# Altium footprint library Motor_Driver_Model_D203.PcbLib: 30 footprints (part 2 of 2)
Each footprint in its own frame and in the unit in brackets; x right, y up, seen from the top. Pads: shape width x height; smd on the part's side, far side on the other; paste and mask are expansions set on the pad; w line width, h text height; cw(c..) or ccw(c..) is an arc to the next point about the centre after c.
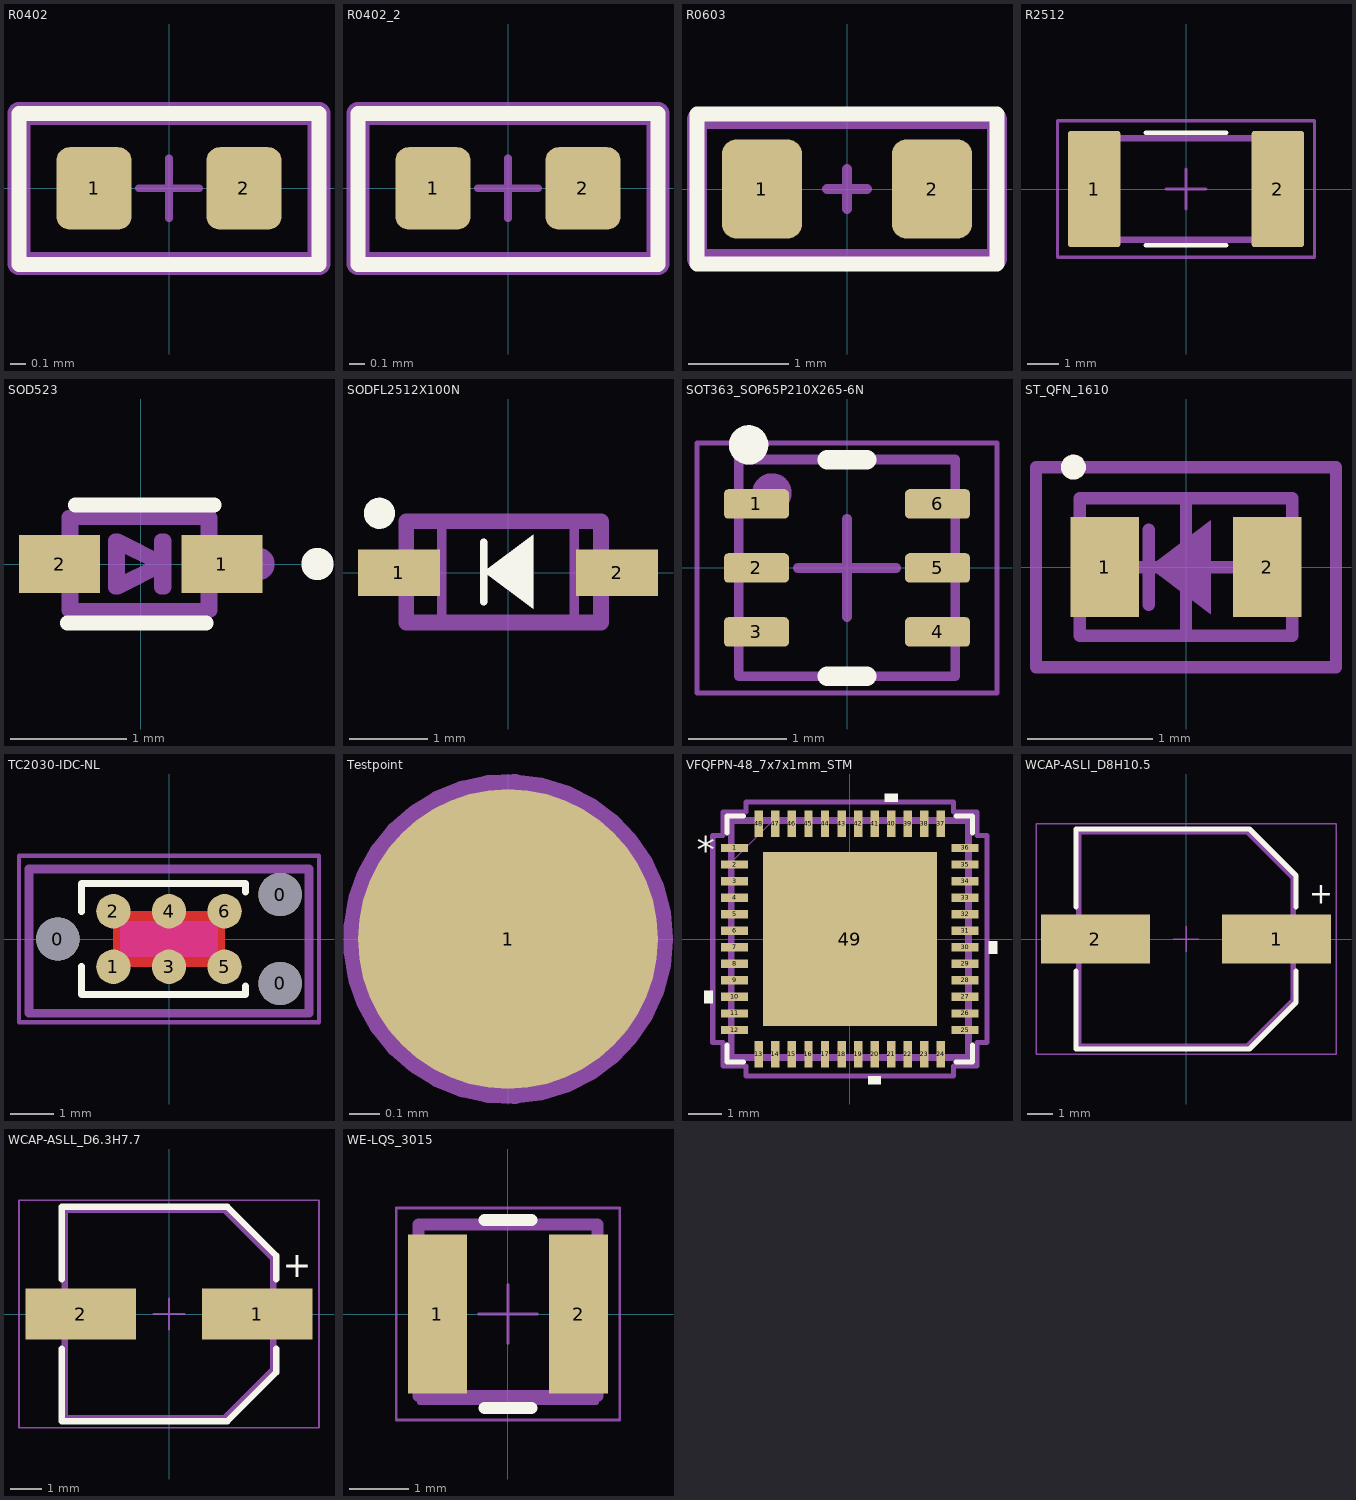
[diagram p1: the footprints below, top view; thin cyan lines are the x and y axes]

## R0402 [mm]
pads (2):
  rrect35% 0.5x0.55 smd: 1(-0.5,0) 2(0.5,0)
Top Overlay:
  lines w0.1: -1,-0.508 1,-0.508 1,0.5 -1,0.5 -1,-0.508
Top ASSY:
  lines w0.152: -1,-0.5 -1,0.5 1,0.5 1,-0.5 -1,-0.5
  text ".Designator" at -3.732,-0.067 h0.8
Mechanical 15:
  lines w0.05: -1,-0.5 1,-0.5 1,0.5 -1,0.5 -1,-0.5
  lines w0.051: -0.2,0 0.2,0 ; 0,-0.2 0,0.2
3D body "RC0402N.step": height 0.71, standoff 0, extent -0.533,-0.254 0.533,0.254

## R0402_2 [mm]
pads (2):
  rrect35% 0.5x0.55 smd: 1(-0.5,0) 2(0.5,0)
Top Overlay:
  lines w0.1: -1,-0.508 -1,0.5 1,0.5 1,-0.508 -1,-0.508
Top ASSY:
  lines w0.152: -1,-0.5 1,-0.5 1,0.5 -1,0.5 -1,-0.5
  text ".Designator" at -3.799,-0.067 h0.8
Mechanical 15:
  lines w0.05: -1,-0.5 -1,0.5 1,0.5 1,-0.5 -1,-0.5
  lines w0.051: -0.2,0 0.2,0 ; 0,-0.2 0,0.2
3D body "RC0402N.step": height 0.71, standoff 0, extent -0.533,-0.254 0.533,0.254

## R0603 [mm]
pads (2):
  rrect35% 0.8x0.991 smd: 1(-0.85,0) 2(0.85,0)
Top Overlay:
  lines w0.152: -1.5,-0.75 -1.5,0.75 1.5,0.75 1.5,-0.75 -1.5,-0.75
Top ASSY:
  lines w0.2: -1.5,-0.7 1.5,-0.7 1.5,0.7 -1.5,0.7 -1.5,-0.7
  text ".Designator" at -4.232,-0.067 h0.8
Mechanical 15:
  lines w0.1: -0.2,0 0.2,0 ; 0,-0.2 0,0.2 ; -1.5,-0.75 -1.5,0.75 1.5,0.75 1.5,-0.75 -1.5,-0.75
3D body "RC0603N.step": height 0.71, standoff 0, extent -0.8,-0.406 0.8,0.406

## R2512 [mm]
pads (2):
  rrect10% 1.65x3.68 smd: 1(-2.9,0) 2(2.9,0)
Top Overlay:
  lines w0.152: -1.27,-1.778 1.27,-1.778 ; -1.27,1.778 1.27,1.778
Top ASSY:
  lines w0.2: -3.15,-1.6 -3.15,1.6 3.15,1.6 3.15,-1.6 -3.15,-1.6
  text "'.Designator'" at 4.548,0.06 h0.8
Mechanical 15:
  lines w0.1: -0.635,0 0.635,0 ; 0,-0.635 0,0.635 ; -4.064,-2.159 4.064,-2.159 4.064,2.159 -4.064,2.159 -4.064,-2.159
3D body "RC2512N.step": height 0.71, standoff 0, extent -3.15,-1.6 3.15,1.6

## SOD523 [mm]
pads (2):
  rect 0.7x0.5 smd: 1(0.7,0) 2(-0.7,0)
Top Overlay:
  circle w0.25: c1.524,0 r0.014
  lines w0.127: -0.635,-0.508 0.565,-0.508 ; -0.565,0.508 0.635,0.508
3D:
  region: -0.6,-0.15 -0.801,-0.15 -0.801,0.15 -0.6,0.15
  region: 0.8,-0.15 0.6,-0.15 0.6,0.15 0.8,0.15
  lines w0.127: 0.2,-0.2 0.2,0 ; 0.2,0.2 0.2,0 ; 0.2,0 -0.2,-0.2 -0.2,0.2 0.2,0 ; -0.6,-0.4 -0.6,0.4 0.6,0.4 0.6,-0.4 -0.6,-0.4
Top ASSY:
  circle w0.25: c1.016,0 r0.014
  region: 0.779,-0.149 0.58,-0.149 0.58,0.151 0.779,0.151
  region: -0.621,-0.149 -0.822,-0.149 -0.822,0.151 -0.621,0.151
  lines w0.127: 0.179,-0.199 0.179,0.001 ; 0.179,0.201 0.179,0.001 ; 0.179,0.001 -0.221,-0.199 -0.221,0.201 0.179,0.001 ; -0.621,-0.399 -0.621,0.401 0.579,0.401 0.579,-0.399 -0.621,-0.399
  text ".Designator" at -2.263,-1.207 h0.5
3D body "BAS716.STEP": height 0.65, standoff 0, extent -0.8,-0.4 0.8,0.4

## SODFL2512X100N [mm]
pads (2):
  rect 1.05x0.6 smd: 1(-1.4,0) 2(1.4,0)
Top Overlay:
  circle w0.2: c-1.651,0.762 r0.1
  region: -0.311,0.01 0.324,0.487 0.324,-0.466
  lines w0.1: -0.311,-0.371 -0.311,0.391
3D:
  lines w0.127: -0.85,-0.625 -0.85,0.625 ; 0.85,-0.625 0.85,0.625
Top ASSY:
  region: -0.311,0.01 0.324,0.487 0.324,-0.466
  lines w0.1: -0.311,-0.371 -0.311,0.391
  lines w0.2: -1.307,-0.64 1.193,-0.64 1.193,0.66 -1.307,0.66 -1.307,-0.64
  text ".Designator" at -2.39,-1.715 h0.5
3D body "step_temp.STEP": height 0.7, standoff -0.2, extent -1.25,-0.625 1.25,0.625

## SOT363_SOP65P210X265-6N [mm]
pads (6):
  rrect30% 0.66x0.3 smd mask+0.05: 1(-0.92,0.65) 2(-0.92,0) 3(-0.92,-0.65) 4(0.92,-0.65) 5(0.92,0) 6(0.92,0.65)
Top Overlay:
  circle w0.2: c-1,1.25 r0.1
  lines w0.2: -0.2,-1.1 0.2,-1.1 ; -0.2,1.1 0.2,1.1
Top ASSY:
  circle w0.2: c-0.762,0.762 r0.1
  lines w0.1: -1.1,-1.1 -1.1,1.1 1.1,1.1 1.1,-1.1 -1.1,-1.1
  text "'.Designator'" at -0.187,4.627 h0.8
Mechanical 15:
  lines w0.05: -1.524,-1.27 -1.524,1.27 1.524,1.27 1.524,-1.27 -1.524,-1.27
  lines w0.1: -0.5,0 0.5,0 ; 0,-0.5 0,0.5
3D body "SOT-363.STEP": height 1.1, standoff 0, extent -1.1,-1.1 1.1,1.1

## ST_QFN_1610 [mm]
pads (2):
  rect 0.55x0.8 smd: 1(-0.65,0) 2(0.65,0)
Top Overlay:
  circle w0.1: c-0.9,0.8 r0.05
Top ASSY:
  region: -0.3,0 0.2,0.375 0.2,-0.375
  lines w0.1: -0.3,-0.3 -0.3,0.3 ; -0.85,-0.55 -0.85,0.55 0.85,0.55 0.85,-0.55 -0.85,-0.55
  text "'.Designator'" at -4.3,-1.584 h0.8
Mechanical 15:
  lines w0.1: -0.5,0 0.5,0 ; 0,-0.5 0,0.5 ; -1.2,-0.8 -1.2,0.8 1.2,0.8 1.2,-0.8 -1.2,-0.8
3D body "ST_1610.step": height 0.6, standoff 0, extent -0.85,-0.55 0.85,0.55

## TC2030-IDC-NL [mil]
pads (9):
  round 39 hole 39 unplated paste-20: 0(-100,0) 0(100,-40) 0(100,40)
  round 31 smd paste-16: 1(-50,-25) 2(-50,25) 3(0,-25) 4(0,25) 5(50,-25) 6(50,25)
Top Layer:
  pour cut-out: -50,25 50,25 50,-25 -50,-25
Top Layer keep-out:
  rectangle: -44,-16 44,16
Top Overlay:
  lines w5.98: -78.74,-24.61 -78.74,-50 68.9,-50 68.9,-42.32 ; -78.74,24.61 -78.74,50 68.9,50 68.9,42.32
Top ASSY:
  lines w7.87: -125.98,-66.93 -125.98,62.99 125.98,62.99 125.98,-66.93 -125.98,-66.93
  text "6" at 43.31,15.75 h31.5
  text "5" at 43.31,-35.43 h31.5
  text "4" at -7.87,15.75 h31.5
  text "3" at -7.87,-35.43 h31.5
  text "2" at -59.06,15.75 h31.5
  text "1" at -55.12,-35.43 h31.5
  text "'.Designator'" at -196.8,-5.25 h31.5
Mechanical 15:
  lines w3.94: -19.68,0 19.68,0 ; 0,-19.68 0,19.68 ; -135,-75 -135,75 135,75 135,-75 -135,-75

## Testpoint [mm]
pads (1):
  round 1 smd paste-0.508 mask-0.025: 1(0,0)
Top ASSY:
  circle w0.1: c0,0 r0.5
  text "'.Designator'" at -1.305,4.107 h0.8
3D body: height -0.19, standoff -0.2, extent -0.496,-0.499 0.5,0.499

## VFQFPN-48_7x7x1mm_STM [mil]
pads (49):
  rect 32x10 smd paste+0 mask+0: 1(-137,108.27) 2(-137,88.58) 3(-137,68.9) 4(-137,49.21) 5(-137,29.53) 6(-137,9.84) 7(-137,-9.84) 8(-137,-29.53) 9(-137,-49.21) 10(-137,-68.9) 11(-137,-88.58) 12(-137,-108.27) 25(137,-108.27) 26(137,-88.58) 27(137,-68.9) 28(137,-49.21) 29(137,-29.53) 30(137,-9.84) 31(137,9.84) 32(137,29.53) 33(137,49.21) 34(137,68.9) 35(137,88.58) 36(137,108.27)
  rect 10x32 smd paste+0 mask+0: 13(-108.27,-137) 14(-88.58,-137) 15(-68.9,-137) 16(-49.21,-137) 17(-29.53,-137) 18(-9.84,-137) 19(9.84,-137) 20(29.53,-137) 21(49.21,-137) 22(68.9,-137) 23(88.58,-137) 24(108.27,-137) 37(108.27,137) 38(88.58,137) 39(68.9,137) 40(49.21,137) 41(29.53,137) 42(9.84,137) 43(-9.84,137) 44(-29.53,137) 45(-49.21,137) 46(-68.9,137) 47(-88.58,137) 48(-108.27,137)
  rect 207x207 smd paste-103 mask+0: 49(0,0)
Top Overlay:
  region: 56.71,163 41.71,163 41.71,173 56.71,173
  region: 165,-2.5 175,-2.5 175,-17.5 165,-17.5
  region: 37.03,-163 22.03,-163 22.03,-173 37.03,-173
  region: -163,-61.4 -173,-61.4 -173,-76.4 -163,-76.4
  lines w6: -146,-126.37 -146,-146 -126.37,-146 ; -146,126.37 -146,146 -126.37,146 ; 126.37,-146 146,-146 146,-126.37 ; 126.37,146 146,146 146,126.37
  text "*" at -181.76,90.56 h31.5
Top Paste:
  region: 99.56,-55.69 55.69,-55.69 55.69,-99.56 99.56,-99.56
  region: 99.56,-3.94 55.69,-3.94 55.69,-47.81 99.56,-47.81
  region: 99.56,47.81 55.69,47.81 55.69,3.94 99.56,3.94
  region: 99.56,99.56 55.69,99.56 55.69,55.69 99.56,55.69
  region: 47.81,-55.69 3.94,-55.69 3.94,-99.56 47.81,-99.56
  region: 47.81,-3.94 3.94,-3.94 3.94,-47.81 47.81,-47.81
  region: 47.81,47.81 3.94,47.81 3.94,3.94 47.81,3.94
  region: 47.81,99.56 3.94,99.56 3.94,55.69 47.81,55.69
  region: -3.94,-55.69 -47.81,-55.69 -47.81,-99.56 -3.94,-99.56
  region: -3.94,-3.94 -47.81,-3.94 -47.81,-47.81 -3.94,-47.81
  region: -3.94,47.81 -47.81,47.81 -47.81,3.94 -3.94,3.94
  region: -3.94,99.56 -47.81,99.56 -47.81,55.69 -3.94,55.69
  region: -55.69,-55.69 -99.56,-55.69 -99.56,-99.56 -55.69,-99.56
  region: -55.69,-3.94 -99.56,-3.94 -99.56,-47.81 -55.69,-47.81
  region: -55.69,47.81 -99.56,47.81 -99.56,3.94 -55.69,3.94
  region: -55.69,99.56 -99.56,99.56 -99.56,55.69 -55.69,55.69
3D:
  lines w1: -141,91 -91,141 ; -141,-141 -141,141 141,141 141,-141 -141,-141 ; -141,-114.27 -141,-102.27 -141,-114.27 ; -141,-94.58 -141,-82.58 -141,-94.58 ; -141,-74.9 -141,-62.9 -141,-74.9 ; -141,-55.21 -141,-43.21 -141,-55.21 ; -141,-35.53 -141,-23.53 -141,-35.53 ; -141,-15.84 -141,-3.84 -141,-15.84 ; -141,3.84 -141,15.84 -141,3.84 ; -141,23.53 -141,35.53 -141,23.53 ; -141,43.21 -141,55.21 -141,43.21 ; -141,62.9 -141,74.9 -141,62.9 ; -141,82.58 -141,94.58 -141,82.58 ; -141,102.27 -141,114.27 -141,102.27 ; -114.27,-141 -102.27,-141 -114.27,-141 ; -114.27,141 -102.27,141 -114.27,141 ; -94.58,-141 -82.58,-141 -94.58,-141 ; -94.58,141 -82.58,141 -94.58,141 ; -74.9,-141 -62.9,-141 -74.9,-141 ; -74.9,141 -62.9,141 -74.9,141 ; -55.21,-141 -43.21,-141 -55.21,-141 ; -55.21,141 -43.21,141 -55.21,141 ; -35.53,-141 -23.53,-141 -35.53,-141 ; -35.53,141 -23.53,141 -35.53,141 ; -15.84,-141 -3.84,-141 -15.84,-141 ; -15.84,141 -3.84,141 -15.84,141 ; 3.84,-141 15.84,-141 3.84,-141 ; 3.84,141 15.84,141 3.84,141 ; 23.53,-141 35.53,-141 23.53,-141 ; 23.53,141 35.53,141 23.53,141 ; 43.21,-141 55.21,-141 43.21,-141 ; 43.21,141 55.21,141 43.21,141 ; 62.9,-141 74.9,-141 62.9,-141 ; 62.9,141 74.9,141 62.9,141 ; 82.58,-141 94.58,-141 82.58,-141 ; 82.58,141 94.58,141 82.58,141 ; 102.27,-141 114.27,-141 102.27,-141 ; 102.27,141 114.27,141 102.27,141 ; 141,-114.27 141,-102.27 141,-114.27 ; 141,-94.58 141,-82.58 141,-94.58 ; 141,-74.9 141,-62.9 141,-74.9 ; 141,-55.21 141,-43.21 141,-55.21 ; 141,-35.53 141,-23.53 141,-35.53 ; 141,-15.84 141,-3.84 141,-15.84 ; 141,3.84 141,15.84 141,3.84 ; 141,23.53 141,35.53 141,23.53 ; 141,43.21 141,55.21 141,43.21 ; 141,62.9 141,74.9 141,62.9 ; 141,82.58 141,94.58 141,82.58 ; 141,102.27 141,114.27 141,102.27
  text "*" at -135.5,94.26 h31.5
Top ASSY:
  lines w7.99: -141,-141 141,-141 141,141 -141,141 -141,-141
  text "*" at -133.5,93.11 h31.5
  text ".Designator" at -89.09,-7.54 h19.68
Mechanical 15:
  lines w6: -163,-123.27 -163,123.27 -151,123.27 -151,151 -123.27,151 -123.27,163 123.27,163 123.27,151 151,151 151,123.27 163,123.27 163,-123.27 151,-123.27 151,-151 123.27,-151 123.27,-163 -123.27,-163 -123.27,-151 -151,-151 -151,-123.27 -163,-123.27
3D body "VFQFPN-48_7x7x1mm_STM.step": height 39.09, standoff 0, extent -140.98,-140.98 140.99,140.99
3D body: height 10, standoff 0, extent 0,0 10,10

## WCAP-ASLI_D8H10.5 [mm] "Aluminium Electrolytic V-Chip SMT Capacitors, 8x10.5mm"
height 10.5
pads (2):
  rect 4.2x1.9 smd: 1(3.5,0) 2(-3.5,0)
Top Overlay:
  lines w0.2: -4.25,-1.25 -4.25,-4.25 2.45,-4.25 4.25,-2.45 4.25,-1.25 ; -4.25,1.25 -4.25,4.25 2.45,4.25 4.25,2.45 4.25,1.25
  text "+" at 4.757,1.357 h0.8
Top ASSY:
  lines w0.2: -4.15,-4.15 2.35,-4.15 4.15,-2.35 4.15,2.35 2.35,4.15 -4.15,4.15 -4.15,-4.15
  text ".Designator" at -3.999,-2.553 h0.8
  text "+" at 3.086,-0.47 h0.8
Mechanical 15:
  lines w0.05: -0.5,0 0.5,0 ; 0,-0.5 0,0.5 ; -5.8,-4.45 -5.8,4.45 5.8,4.45 5.8,-4.45 -5.8,-4.45
3D body "8x10.5x3.1.stp": height 10.5, standoff 0, extent -4.5,-4.15 4.5,4.15

## WCAP-ASLL_D6.3H7.7 [mm] "Aluminium Electrolytic V-Chip SMT Capacitors, 6.3x7.7mm"
height 7.7
pads (2):
  rect 3.5x1.6 smd: 1(2.8,0) 2(-2.8,0)
Top Overlay:
  lines w0.2: -3.4,-1.1 -3.4,-3.4 1.85,-3.4 3.4,-1.85 3.4,-1.1 ; -3.4,1.1 -3.4,3.4 1.85,3.4 3.4,1.85 3.4,1.1
  text "+" at 3.607,1.157 h0.8
Top ASSY:
  lines w0.2: -3.3,-3.3 1.75,-3.3 3.3,-1.75 3.3,1.75 1.75,3.3 -3.3,3.3 -3.3,-3.3
  text "+" at 2.451,-0.343 h0.8
  text ".Designator" at -5.632,-0.617 h0.8
Mechanical 15:
  lines w0.05: -0.5,0 0.5,0 ; 0,-0.5 0,0.5 ; -4.75,-3.6 -4.75,3.6 4.75,3.6 4.75,-3.6 -4.75,-3.6
3D body "6.3x7.7x2.2.stp": height 7.7, standoff 0, extent -3.65,-3.3 3.65,3.3

## WE-LQS_3015 [mm] "SMD Power Inductor, 2-Leads, body 3x3mm"
height 1.5
pads (2):
  rect 1x2.7 smd: 1(-1.2,0) 2(1.2,0)
Top Overlay:
  lines w0.2: -0.4,-1.6 0.4,-1.6 ; -0.4,1.6 0.4,1.6
3D:
  lines w0.1: -1.5,-1.5 1.5,-1.5 1.5,1.5 -1.5,1.5 -1.5,-1.5
Top ASSY:
  lines w0.203: -1.524,-1.397 -1.524,1.524 1.524,1.524 1.524,-1.397 -1.524,-1.397
  text ".Designator" at -2.39,-0.191 h0.5
Mechanical 15:
  lines w0.05: -0.5,0 0.5,0 ; 0,-0.5 0,0.5 ; -1.9,-1.8 -1.9,1.8 1.9,1.8 1.9,-1.8 -1.9,-1.8
3D body "LQS_3015.stp": height 1.5, standoff 0, extent -1.5,-1.5 1.5,1.5